# Altium schematic symbol library 74xGxx.SchLib: 165 symbols (part 1 of 2)
Pins are listed as number, name and electrical type; pins without a type are passive.

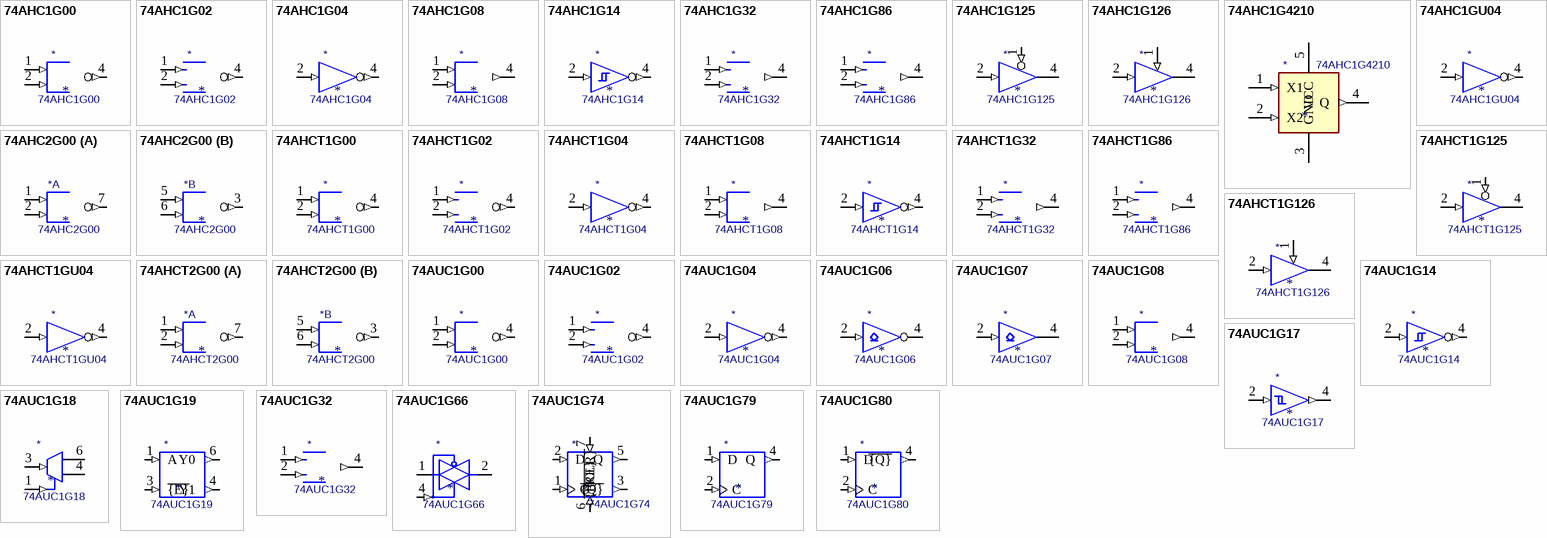
[diagram p0: symbols 74AHC1G00 to 74AUC1G80]

## 74AHC1G00
designator *  value 74AHC1G00
ki_keywords: Single Gate NAND LVC CMOS; ki_description: Single NAND Gate, Low-Voltage CMOS; ki_fp_filters: SOT* SG-*; Supplier: http://www.ti.com/lit/sg/scyt129e/scyt129e.pdf
pins: 1 (in), 2 (in), 3 GND (power) hidden, 4 (out), 5 VCC (power) hidden

## 74AHC1G02
designator *  value 74AHC1G02
ki_keywords: Single Gate NOR LVC CMOS; ki_description: Single NOR Gate, Low-Voltage CMOS; ki_fp_filters: SOT* SG-*; Supplier: http://www.ti.com/lit/sg/scyt129e/scyt129e.pdf
pins: 1 (in), 2 (in), 3 GND (power) hidden, 4 (out), 5 VCC (power) hidden

## 74AHC1G04
designator *  value 74AHC1G04
ki_keywords: Single Gate NOT LVC CMOS; ki_description: Single NOT Gate, Low-Voltage CMOS; ki_fp_filters: SOT* SG-*; Supplier: http://www.ti.com/lit/sg/scyt129e/scyt129e.pdf
pins: 2 (in), 3 GND (power) hidden, 4 (out), 5 VCC (power) hidden

## 74AHC1G08
designator *  value 74AHC1G08
ki_keywords: Single Gate AND LVC CMOS; ki_description: Single AND Gate, Low-Voltage CMOS; ki_fp_filters: SOT* SG-*; Supplier: http://www.ti.com/lit/sg/scyt129e/scyt129e.pdf
pins: 1 (in), 2 (in), 3 GND (power) hidden, 4 (out), 5 VCC (power) hidden

## 74AHC1G14
designator *  value 74AHC1G14
ki_keywords: Single Gate NOT Schmitt LVC CMOS; ki_description: Single Schmitt NOT Gate, Low-Voltage CMOS; ki_fp_filters: SOT* SG-*; Supplier: https://www.ti.com/lit/ds/symlink/sn74lvc1g14.pdf
pins: 2 (in), 3 GND (power) hidden, 4 (out), 5 VCC (power) hidden

## 74AHC1G32
designator *  value 74AHC1G32
ki_keywords: Single Gate OR LVC CMOS; ki_description: Single OR Gate, Low-Voltage CMOS; ki_fp_filters: SOT* SG-*; Supplier: http://www.ti.com/lit/sg/scyt129e/scyt129e.pdf
pins: 1 (in), 2 (in), 3 GND (power) hidden, 4 (out), 5 VCC (power) hidden

## 74AHC1G86
designator *  value 74AHC1G86
ki_keywords: Single Gate EX-OR LVC CMOS; ki_description: Single EX-OR Gate, Low-Voltage CMOS; ki_fp_filters: SOT* SG-*; Supplier: http://www.ti.com/lit/sg/scyt129e/scyt129e.pdf
pins: 1 (in), 2 (in), 3 GND (power) hidden, 4 (out), 5 VCC (power) hidden

## 74AHC1G125
designator *  value 74AHC1G125
ki_keywords: Single Gate Buff Tri-State LVC CMOS; ki_description: Single Buffer Gate Tri-State, Low-Voltage CMOS; ki_fp_filters: SOT* SG-*; Supplier: http://www.ti.com/lit/sg/scyt129e/scyt129e.pdf
pins: 1 (in), 2 (in), 3 GND (power) hidden, 4 (hiz), 5 VCC (power) hidden

## 74AHC1G126
designator *  value 74AHC1G126
ki_keywords: Single Gate Buff Tri-State LVC CMOS; ki_description: Single Buffer Gate Tri-State, Low-Voltage CMOS; ki_fp_filters: SOT* SG-*; Supplier: http://www.ti.com/lit/sg/scyt129e/scyt129e.pdf
pins: 1 (in), 2 (in), 3 GND (power) hidden, 4 (hiz), 5 VCC (power) hidden

## 74AHC1G4210
designator *  value 74AHC1G4210
ki_keywords: divider oscillator; ki_description: 10-stage divider and oscillator, SOT353-1; ki_fp_filters: SOT*353*; Footprint: Package_TO_SOT_SMD:SOT-353_SC-70-5; Supplier: https://assets.nexperia.com/documents/data-sheet/74AHC1G4210.pdf
footprint SOT-353_SC-70-5
pins: 1 X1 (in), 2 X2 (in), 3 GND (power), 4 Q (out), 5 VCC (power)

## 74AHC1GU04
designator *  value 74AHC1GU04
ki_keywords: Single Gate NOT LVC CMOS; ki_description: 74AHC1G04, Single NOT Gate, Low-Voltage CMOS; ki_fp_filters: SOT* SG-*; Supplier: http://www.ti.com/lit/sg/scyt129e/scyt129e.pdf
pins: 2 (in), 3 GND (power) hidden, 4 (out), 5 VCC (power) hidden

## 74AHC2G00
designator *  value 74AHC2G00
ki_keywords: Dual Gate NAND LVC CMOS; ki_description: Dual NAND Gate, High-speed Si-gate CMOS; ki_fp_filters: SSOP* VSSOP*; Supplier: https://assets.nexperia.com/documents/data-sheet/74AHC_AHCT2G00.pdf
part A pins: 1 (in), 2 (in), 4 GND (power) hidden, 7 (out), 8 VCC (power) hidden
part B pins: 3 (out), 4 GND (power) hidden, 5 (in), 6 (in), 8 VCC (power) hidden

## 74AHCT1G00
designator *  value 74AHCT1G00
ki_keywords: Single Gate NAND LVC CMOS; ki_description: Single NAND Gate, Low-Voltage CMOS; ki_fp_filters: SOT* SG-*; Supplier: http://www.ti.com/lit/sg/scyt129e/scyt129e.pdf
pins: 1 (in), 2 (in), 3 GND (power) hidden, 4 (out), 5 VCC (power) hidden

## 74AHCT1G02
designator *  value 74AHCT1G02
ki_keywords: Single Gate NOR LVC CMOS; ki_description: Single NOR Gate, Low-Voltage CMOS; ki_fp_filters: SOT* SG-*; Supplier: http://www.ti.com/lit/sg/scyt129e/scyt129e.pdf
pins: 1 (in), 2 (in), 3 GND (power) hidden, 4 (out), 5 VCC (power) hidden

## 74AHCT1G04
designator *  value 74AHCT1G04
ki_keywords: Single Gate NOT LVC CMOS; ki_description: Single NOT Gate, Low-Voltage CMOS; ki_fp_filters: SOT* SG-*; Supplier: http://www.ti.com/lit/sg/scyt129e/scyt129e.pdf
pins: 2 (in), 3 GND (power) hidden, 4 (out), 5 VCC (power) hidden

## 74AHCT1G08
designator *  value 74AHCT1G08
ki_keywords: Single Gate AND LVC CMOS; ki_description: Single AND Gate, Low-Voltage CMOS; ki_fp_filters: SOT* SG-*; Supplier: http://www.ti.com/lit/sg/scyt129e/scyt129e.pdf
pins: 1 (in), 2 (in), 3 GND (power) hidden, 4 (out), 5 VCC (power) hidden

## 74AHCT1G14
designator *  value 74AHCT1G14
ki_keywords: Single Gate NOT Schmitt LVC CMOS; ki_description: Single Schmitt NOT Gate, Low-Voltage CMOS; ki_fp_filters: SOT* SG-*; Supplier: http://www.ti.com/lit/sg/scyt129e/scyt129e.pdf
pins: 2 (in), 3 GND (power) hidden, 4 (out), 5 VCC (power) hidden

## 74AHCT1G32
designator *  value 74AHCT1G32
ki_keywords: Single Gate OR LVC CMOS; ki_description: Single OR Gate, Low-Voltage CMOS; ki_fp_filters: SOT* SG-*; Supplier: http://www.ti.com/lit/sg/scyt129e/scyt129e.pdf
pins: 1 (in), 2 (in), 3 GND (power) hidden, 4 (out), 5 VCC (power) hidden

## 74AHCT1G86
designator *  value 74AHCT1G86
ki_keywords: Single Gate EX-OR LVC CMOS; ki_description: Single EX-OR Gate, Low-Voltage CMOS; ki_fp_filters: SOT* SG-*; Supplier: http://www.ti.com/lit/sg/scyt129e/scyt129e.pdf
pins: 1 (in), 2 (in), 3 GND (power) hidden, 4 (out), 5 VCC (power) hidden

## 74AHCT1G125
designator *  value 74AHCT1G125
ki_keywords: Single Gate Buff Tri-State LVC CMOS; ki_description: Single Buffer Gate Tri-State, Low-Voltage CMOS; ki_fp_filters: SOT* SG-*; Supplier: http://www.ti.com/lit/sg/scyt129e/scyt129e.pdf
pins: 1 (in), 2 (in), 3 GND (power) hidden, 4 (hiz), 5 VCC (power) hidden

## 74AHCT1G126
designator *  value 74AHCT1G126
ki_keywords: Single Gate Buff Tri-State LVC CMOS; ki_description: Single Buffer Gate Tri-State, Low-Voltage CMOS; ki_fp_filters: SOT* SG-*; Supplier: http://www.ti.com/lit/sg/scyt129e/scyt129e.pdf
pins: 1 (in), 2 (in), 3 GND (power) hidden, 4 (hiz), 5 VCC (power) hidden

## 74AHCT1GU04
designator *  value 74AHCT1GU04
ki_keywords: Single Gate NOT LVC CMOS; ki_description: 74AHCT1G04, Single NOT Gate, Low-Voltage CMOS; ki_fp_filters: SOT* SG-*; Supplier: http://www.ti.com/lit/sg/scyt129e/scyt129e.pdf
pins: 2 (in), 3 GND (power) hidden, 4 (out), 5 VCC (power) hidden

## 74AHCT2G00
designator *  value 74AHCT2G00
ki_keywords: Dual Gate NAND LVC CMOS; ki_description: Dual NAND Gate, TTL input High-speed Si-gate CMOS; ki_fp_filters: SSOP* VSSOP*; Supplier: https://assets.nexperia.com/documents/data-sheet/74AHC_AHCT2G00.pdf
part A pins: 1 (in), 2 (in), 4 GND (power) hidden, 7 (out), 8 VCC (power) hidden
part B pins: 3 (out), 4 GND (power) hidden, 5 (in), 6 (in), 8 VCC (power) hidden

## 74AUC1G00
designator *  value 74AUC1G00
ki_keywords: Single Gate NAND LVC CMOS; ki_description: Single NAND Gate, Low-Voltage CMOS; ki_fp_filters: SOT* SG-*; Supplier: http://www.ti.com/lit/sg/scyt129e/scyt129e.pdf
pins: 1 (in), 2 (in), 3 GND (power) hidden, 4 (out), 5 VCC (power) hidden

## 74AUC1G02
designator *  value 74AUC1G02
ki_keywords: Single Gate NOR LVC CMOS; ki_description: Single NOR Gate, Low-Voltage CMOS; ki_fp_filters: SOT* SG-*; Supplier: http://www.ti.com/lit/sg/scyt129e/scyt129e.pdf
pins: 1 (in), 2 (in), 3 GND (power) hidden, 4 (out), 5 VCC (power) hidden

## 74AUC1G04
designator *  value 74AUC1G04
ki_keywords: Single Gate NOT LVC CMOS; ki_description: Single NOT Gate, Low-Voltage CMOS; ki_fp_filters: SOT* SG-*; Supplier: http://www.ti.com/lit/sg/scyt129e/scyt129e.pdf
pins: 2 (in), 3 GND (power) hidden, 4 (out), 5 VCC (power) hidden

## 74AUC1G06
designator *  value 74AUC1G06
ki_keywords: Single Gate NOT LVC CMOS Open Drain; ki_description: Single NOT Gate w/ Open Drain, Low-Voltage CMOS; ki_fp_filters: SOT* SG-*; Supplier: http://www.ti.com/lit/sg/scyt129e/scyt129e.pdf
pins: 2 (in), 3 GND (power) hidden, 4 (oc), 5 VCC (power) hidden

## 74AUC1G07
designator *  value 74AUC1G07
ki_keywords: Single Gate Buff LVC CMOS Open Drain; ki_description: Single Buffer Gate w/ Open Drain, Low-Voltage CMOS; ki_fp_filters: SOT* SG-*; Supplier: http://www.ti.com/lit/sg/scyt129e/scyt129e.pdf
pins: 2 (in), 3 GND (power) hidden, 4 (oc), 5 VCC (power) hidden

## 74AUC1G08
designator *  value 74AUC1G08
ki_keywords: Single Gate AND LVC CMOS; ki_description: Single AND Gate, Low-Voltage CMOS; ki_fp_filters: SOT* SG-*; Supplier: http://www.ti.com/lit/sg/scyt129e/scyt129e.pdf
pins: 1 (in), 2 (in), 3 GND (power) hidden, 4 (out), 5 VCC (power) hidden

## 74AUC1G14
designator *  value 74AUC1G14
ki_keywords: Single Gate NOT Schmitt LVC CMOS; ki_description: Single Schmitt NOT Gate, Low-Voltage CMOS; ki_fp_filters: SOT* SG-*; Supplier: http://www.ti.com/lit/sg/scyt129e/scyt129e.pdf
pins: 2 (in), 3 GND (power) hidden, 4 (out), 5 VCC (power) hidden

## 74AUC1G17
designator *  value 74AUC1G17
ki_keywords: Single Gate Buff Schmitt LVC CMOS; ki_description: Single Schmitt Buffer Gate, Low-Voltage CMOS; ki_fp_filters: SOT* SG-*; Supplier: http://www.ti.com/lit/sg/scyt129e/scyt129e.pdf
pins: 2 (in), 3 GND (power) hidden, 4 (out), 5 VCC (power) hidden

## 74AUC1G18
designator *  value 74AUC1G18
ki_keywords: Single Demux LVC CMOS; ki_description: Single Demultiplexer, Low-Voltage CMOS; ki_fp_filters: SOT* SG-*; Supplier: http://www.ti.com/lit/sg/scyt129e/scyt129e.pdf
pins: 1 (in), 2 GND (power) hidden, 3 (in), 4 (hiz), 5 VCC (power) hidden, 6 (hiz)

## 74AUC1G19
designator *  value 74AUC1G19
ki_keywords: Single Decoder LVC CMOS; ki_description: Single 1 of 2 Decoder, Low-Voltage CMOS; ki_fp_filters: SOT* SG-*; Supplier: http://www.ti.com/lit/sg/scyt129e/scyt129e.pdf
pins: 1 A (in), 2 GND (power) hidden, 3 ~{{E}} (in), 4 Y1 (out), 5 VCC (power) hidden, 6 Y0 (out)

## 74AUC1G32
designator *  value 74AUC1G32
ki_keywords: Single Gate OR LVC CMOS; ki_description: Single OR Gate, Low-Voltage CMOS; ki_fp_filters: SOT* SG-*; Supplier: http://www.ti.com/lit/sg/scyt129e/scyt129e.pdf
pins: 1 (in), 2 (in), 3 GND (power) hidden, 4 (out), 5 VCC (power) hidden

## 74AUC1G66
designator *  value 74AUC1G66
ki_keywords: Single Bilateral Analog Switch; ki_description: Single Bilateral Analog Switch, SOT-23-5/SC-70-5; ki_fp_filters: SOT* SC*; Supplier: http://www.ti.com/lit/ds/symlink/sn74auc1g66.pdf
pins: 1 (io), 2 (io), 3 GND (power) hidden, 4 (in), 5 VCC (power) hidden

## 74AUC1G74
designator *  value 74AUC1G74
ki_keywords: Single D Flip-Flop D CMOS; ki_description: Single D Flip-Flop, Low-Voltage CMOS; ki_fp_filters: SSOP* VSSOP*; Supplier: http://www.ti.com/lit/sg/scyt129e/scyt129e.pdf
pins: 1 C (in), 2 D (in), 3 ~{{Q}} (out), 4 GND (power) hidden, 5 Q (out), 6 ~{{CLR}} (in), 7 ~{{PRE}} (in), 8 VCC (power) hidden

## 74AUC1G79
designator *  value 74AUC1G79
ki_keywords: Single D Flip-Flop D CMOS; ki_description: Single D Flip-Flop, Low-Voltage CMOS; ki_fp_filters: SOT* SG*; Supplier: http://www.ti.com/lit/sg/scyt129e/scyt129e.pdf
pins: 1 D (in), 2 C (in), 3 GND (power) hidden, 4 Q (out), 5 VCC (power) hidden

## 74AUC1G80
designator *  value 74AUC1G80
ki_keywords: Single D Flip-Flop CMOS; ki_description: Single D Flip-Flop Iverted Output, Low-Voltage CMOS; ki_fp_filters: SOT* SG*; Supplier: http://www.ti.com/lit/sg/scyt129e/scyt129e.pdf
pins: 1 D (in), 2 C (in), 3 GND (power) hidden, 4 ~{{Q}} (out), 5 VCC (power) hidden

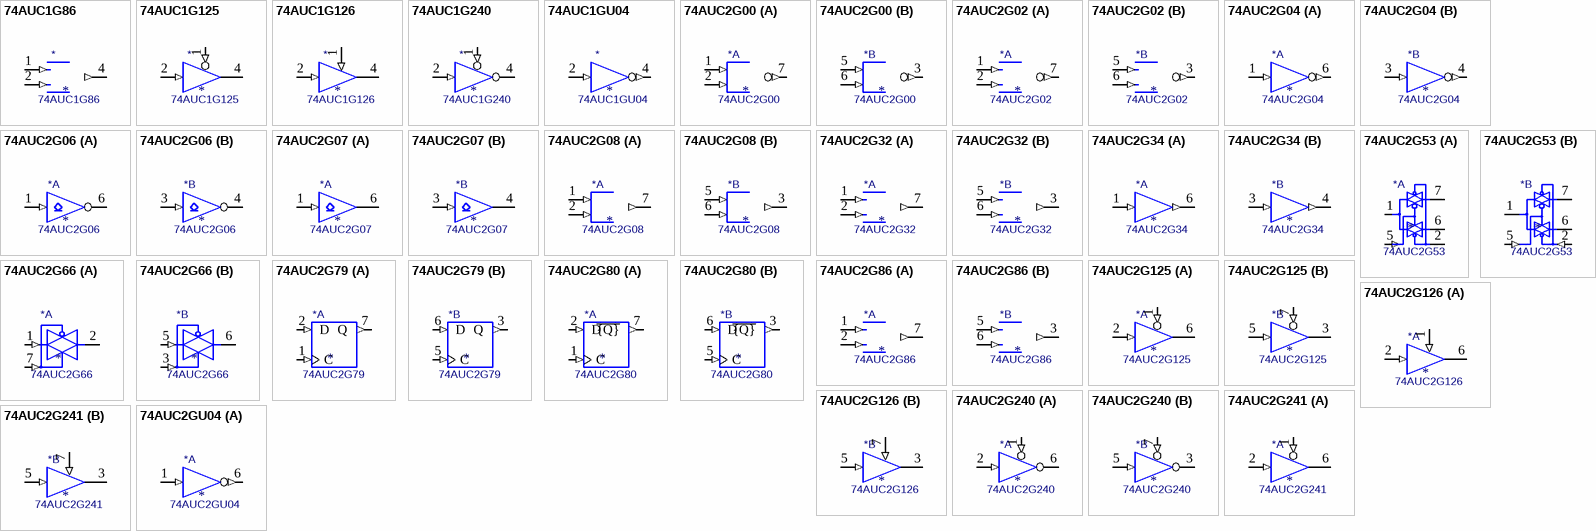
[diagram p1: symbols 74AUC1G86 to 74AUC2GU04]

## 74AUC1G86
designator *  value 74AUC1G86
ki_keywords: Single Gate EX-OR LVC CMOS; ki_description: Single EX-OR Gate, Low-Voltage CMOS; ki_fp_filters: SOT* SG-*; Supplier: http://www.ti.com/lit/sg/scyt129e/scyt129e.pdf
pins: 1 (in), 2 (in), 3 GND (power) hidden, 4 (out), 5 VCC (power) hidden

## 74AUC1G125
designator *  value 74AUC1G125
ki_keywords: Single Gate Buff Tri-State LVC CMOS; ki_description: Single Buffer Gate Tri-State, Low-Voltage CMOS; ki_fp_filters: SOT* SG-*; Supplier: http://www.ti.com/lit/sg/scyt129e/scyt129e.pdf
pins: 1 (in), 2 (in), 3 GND (power) hidden, 4 (hiz), 5 VCC (power) hidden

## 74AUC1G126
designator *  value 74AUC1G126
ki_keywords: Single Gate Buff Tri-State LVC CMOS; ki_description: Single Buffer Gate Tri-State, Low-Voltage CMOS; ki_fp_filters: SOT* SG-*; Supplier: http://www.ti.com/lit/sg/scyt129e/scyt129e.pdf
pins: 1 (in), 2 (in), 3 GND (power) hidden, 4 (hiz), 5 VCC (power) hidden

## 74AUC1G240
designator *  value 74AUC1G240
ki_keywords: Single Gate Buff/Drv Tri-State LVC CMOS; ki_description: Single Buffer/Driver Gate Tri-State, Low-Voltage CMOS; ki_fp_filters: SOT* SG-*; Supplier: http://www.ti.com/lit/sg/scyt129e/scyt129e.pdf
pins: 1 (in), 2 (in), 3 GND (power) hidden, 4 (hiz), 5 VCC (power) hidden

## 74AUC1GU04
designator *  value 74AUC1GU04
ki_keywords: Single Gate NOT LVC CMOS; ki_description: 74AUC1G04, Single NOT Gate, Low-Voltage CMOS; ki_fp_filters: SOT* SG-*; Supplier: http://www.ti.com/lit/sg/scyt129e/scyt129e.pdf
pins: 2 (in), 3 GND (power) hidden, 4 (out), 5 VCC (power) hidden

## 74AUC2G00
designator *  value 74AUC2G00
ki_keywords: Dual Gate NAND LVC CMOS; ki_description: Dual NAND Gate, Low-Voltage CMOS; ki_fp_filters: SSOP* VSSOP*; Supplier: http://www.ti.com/lit/sg/scyt129e/scyt129e.pdf
part A pins: 1 (in), 2 (in), 4 GND (power) hidden, 7 (out), 8 VCC (power) hidden
part B pins: 3 (out), 4 GND (power) hidden, 5 (in), 6 (in), 8 VCC (power) hidden

## 74AUC2G02
designator *  value 74AUC2G02
ki_keywords: Dual Gate NOR LVC CMOS; ki_description: Dual NOR Gate, Low-Voltage CMOS; ki_fp_filters: SSOP* VSSOP*; Supplier: http://www.ti.com/lit/sg/scyt129e/scyt129e.pdf
part A pins: 1 (in), 2 (in), 4 GND (power) hidden, 7 (out), 8 VCC (power) hidden
part B pins: 3 (out), 4 GND (power) hidden, 5 (in), 6 (in), 8 VCC (power) hidden

## 74AUC2G04
designator *  value 74AUC2G04
ki_keywords: Dual Gate NOT LVC CMOS; ki_description: Dual NOT Gate, Low-Voltage CMOS; ki_fp_filters: SG-* SOT*; Supplier: http://www.ti.com/lit/sg/scyt129e/scyt129e.pdf
part A pins: 1 (in), 2 GND (power) hidden, 5 VCC (power) hidden, 6 (out)
part B pins: 2 GND (power) hidden, 3 (in), 4 (out), 5 VCC (power) hidden

## 74AUC2G06
designator *  value 74AUC2G06
ki_keywords: Dual Gate NOT Open Drain LVC CMOS; ki_description: Dual NOT Gate w/ Open Drain, Low-Voltage CMOS; ki_fp_filters: SG-* SOT*; Supplier: http://www.ti.com/lit/sg/scyt129e/scyt129e.pdf
part A pins: 1 (in), 2 GND (power) hidden, 5 VCC (power) hidden, 6 (oc)
part B pins: 2 GND (power) hidden, 3 (in), 4 (oc), 5 VCC (power) hidden

## 74AUC2G07
designator *  value 74AUC2G07
ki_keywords: Dual Gate Buffer Open Drain LVC CMOS; ki_description: Dual Buffer w/ Open Drain, Low-Voltage CMOS; ki_fp_filters: SG-* SOT*; Supplier: http://www.ti.com/lit/sg/scyt129e/scyt129e.pdf
part A pins: 1 (in), 2 GND (power) hidden, 5 VCC (power) hidden, 6 (oc)
part B pins: 2 GND (power) hidden, 3 (in), 4 (oc), 5 VCC (power) hidden

## 74AUC2G08
designator *  value 74AUC2G08
ki_keywords: Dual Gate AND LVC CMOS; ki_description: Dual AND Gate, Low-Voltage CMOS; ki_fp_filters: SSOP* VSSOP*; Supplier: http://www.ti.com/lit/sg/scyt129e/scyt129e.pdf
part A pins: 1 (in), 2 (in), 4 GND (power) hidden, 7 (out), 8 VCC (power) hidden
part B pins: 3 (out), 4 GND (power) hidden, 5 (in), 6 (in), 8 VCC (power) hidden

## 74AUC2G32
designator *  value 74AUC2G32
ki_keywords: Dual Gate OR LVC CMOS; ki_description: Dual OR Gate, Low-Voltage CMOS; ki_fp_filters: SSOP* VSSOP*; Supplier: http://www.ti.com/lit/sg/scyt129e/scyt129e.pdf
part A pins: 1 (in), 2 (in), 4 GND (power) hidden, 7 (out), 8 VCC (power) hidden
part B pins: 3 (out), 4 GND (power) hidden, 5 (in), 6 (in), 8 VCC (power) hidden

## 74AUC2G34
designator *  value 74AUC2G34
ki_keywords: Dual Buffer LVC CMOS; ki_description: Dual Buffer, Low-Voltage CMOS; ki_fp_filters: SG-* SOT*; Supplier: http://www.ti.com/lit/sg/scyt129e/scyt129e.pdf
part A pins: 1 (in), 2 GND (power) hidden, 5 VCC (power) hidden, 6 (out)
part B pins: 2 GND (power) hidden, 3 (in), 4 (out), 5 VCC (power) hidden

## 74AUC2G53
designator *  value 74AUC2G53
ki_keywords: Analog Switch 1 to 2 CMOS; ki_description: 1 to 2 Analog Switch Mux/Demux, Low-Voltage CMOS; ki_fp_filters: SSOP* VSSOP*; Supplier: http://www.ti.com/lit/sg/scyt129e/scyt129e.pdf
part A pins: 1 (io), 2 (io), 3 GND (power) hidden, 4 GND (power) hidden, 5 (in), 6 (io), 7 (io), 8 VCC (power) hidden
part B pins: 1 (io), 2 (in), 4 GND (power) hidden, 5 (in), 6 (io), 7 (io), 8 VCC (power) hidden

## 74AUC2G66
designator *  value 74AUC2G66
ki_keywords: Dual Analog Switch; ki_fp_filters: SSOP* VSSOP*; Supplier: http://www.ti.com/lit/sg/scyt129e/scyt129e.pdf; ki_description: Dual Analog Switch
part A pins: 1 (in), 2 (hiz), 4 GND (power) hidden, 7 (in), 8 VCC (power) hidden
part B pins: 3 (in), 4 GND (power) hidden, 5 (in), 6 (hiz), 8 VCC (power) hidden

## 74AUC2G79
designator *  value 74AUC2G79
ki_keywords: Dual D Flip-Flop D CMOS; ki_description: Dual D Flip-Flop, Low-Voltage CMOS; ki_fp_filters: SSOP* VSSOP*; Supplier: http://www.ti.com/lit/sg/scyt129e/scyt129e.pdf
part A pins: 1 C (in), 2 D (in), 4 GND (power) hidden, 7 Q (out), 8 VCC (power) hidden
part B pins: 3 Q (out), 4 GND (power) hidden, 5 C (in), 6 D (in), 8 VCC (power) hidden

## 74AUC2G80
designator *  value 74AUC2G80
ki_keywords: Dual D Flip-Flop Negative CMOS; ki_description: Dual D Flip-Flop w/ Negative Output, Low-Voltage CMOS; ki_fp_filters: SSOP* VSSOP*; Supplier: http://www.ti.com/lit/sg/scyt129e/scyt129e.pdf
part A pins: 1 C (in), 2 D (in), 4 GND (power) hidden, 7 ~{{Q}} (out), 8 VCC (power) hidden
part B pins: 3 ~{{Q}} (out), 4 GND (power) hidden, 5 C (in), 6 D (in), 8 VCC (power) hidden

## 74AUC2G86
designator *  value 74AUC2G86
ki_keywords: Dual Gate EX-OR LVC CMOS; ki_description: Dual EX-OR Gate, Low-Voltage CMOS; ki_fp_filters: SSOP* VSSOP*; Supplier: http://www.ti.com/lit/sg/scyt129e/scyt129e.pdf
part A pins: 1 (in), 2 (in), 4 GND (power) hidden, 7 (out), 8 VCC (power) hidden
part B pins: 3 (out), 4 GND (power) hidden, 5 (in), 6 (in), 8 VCC (power) hidden

## 74AUC2G125
designator *  value 74AUC2G125
ki_keywords: Dual Buff Tri-State LVC CMOS; ki_description: Dual Buffer Tri-State, Low-Voltage CMOS; ki_fp_filters: VSSOP*; Supplier: http://www.ti.com/lit/sg/scyt129e/scyt129e.pdf
part A pins: 1 (in), 2 (in), 4 GND (power) hidden, 6 (hiz), 8 VCC (power) hidden
part B pins: 3 (hiz), 4 GND (power) hidden, 5 (in), 7 (in), 8 VCC (power) hidden

## 74AUC2G126
designator *  value 74AUC2G126
ki_keywords: Dual Buff Tri-State LVC CMOS; ki_description: Dual Buffer Tri-State, Low-Voltage CMOS; ki_fp_filters: VSSOP*; Supplier: http://www.ti.com/lit/sg/scyt129e/scyt129e.pdf
part A pins: 1 (in), 2 (in), 4 GND (power) hidden, 6 (hiz), 8 VCC (power) hidden
part B pins: 3 (hiz), 4 GND (power) hidden, 5 (in), 7 (in), 8 VCC (power) hidden

## 74AUC2G240
designator *  value 74AUC2G240
ki_keywords: Dual Inv Buff Tri-State LVC CMOS; ki_description: Dual Inverter Buffer Tri-State, Low-Voltage CMOS; ki_fp_filters: VSSOP*; Supplier: http://www.ti.com/lit/sg/scyt129e/scyt129e.pdf
part A pins: 1 (in), 2 (in), 4 GND (power) hidden, 6 (hiz), 8 VCC (power) hidden
part B pins: 3 (hiz), 4 GND (power) hidden, 5 (in), 7 (in), 8 VCC (power) hidden

## 74AUC2G241
designator *  value 74AUC2G241
ki_keywords: Dual Buff Tri-State LVC CMOS; ki_description: Dual Buffer Tri-State, Low-Voltage CMOS; ki_fp_filters: VSSOP*; Supplier: http://www.ti.com/lit/sg/scyt129e/scyt129e.pdf
part A pins: 1 (in), 2 (in), 4 GND (power) hidden, 6 (hiz), 8 VCC (power) hidden
part B pins: 3 (hiz), 4 GND (power) hidden, 5 (in), 7 (in), 8 VCC (power) hidden

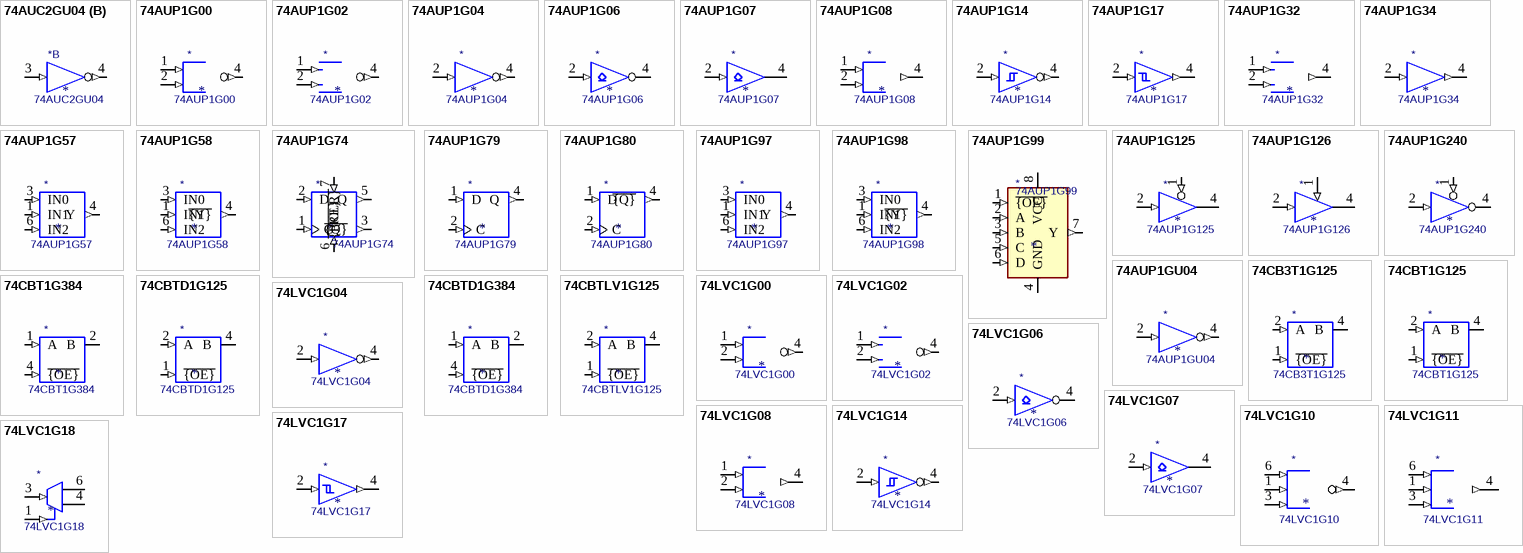
[diagram p2: symbols 74AUC2GU04 to 74LVC1G18]

## 74AUC2GU04
designator *  value 74AUC2GU04
ki_keywords: Dual Gate NOT LVC CMOS; ki_description: 74AUC2G04, Dual NOT Gate, Low-Voltage CMOS; ki_fp_filters: SG-* SOT*; Supplier: http://www.ti.com/lit/sg/scyt129e/scyt129e.pdf
part A pins: 1 (in), 2 GND (power) hidden, 5 VCC (power) hidden, 6 (out)
part B pins: 2 GND (power) hidden, 3 (in), 4 (out), 5 VCC (power) hidden

## 74AUP1G00
designator *  value 74AUP1G00
ki_keywords: Single Gate NAND LVC CMOS; ki_description: Single NAND Gate, Low-Voltage CMOS; ki_fp_filters: SOT* SG-*; Supplier: http://www.ti.com/lit/sg/scyt129e/scyt129e.pdf
pins: 1 (in), 2 (in), 3 GND (power) hidden, 4 (out), 5 VCC (power) hidden

## 74AUP1G02
designator *  value 74AUP1G02
ki_keywords: Single Gate NOR LVC CMOS; ki_description: Single NOR Gate, Low-Voltage CMOS; ki_fp_filters: SOT* SG-*; Supplier: http://www.ti.com/lit/sg/scyt129e/scyt129e.pdf
pins: 1 (in), 2 (in), 3 GND (power) hidden, 4 (out), 5 VCC (power) hidden

## 74AUP1G04
designator *  value 74AUP1G04
ki_keywords: Single Gate NOT LVC CMOS; ki_description: Single NOT Gate, Low-Voltage CMOS; ki_fp_filters: SOT* SG-*; Supplier: http://www.ti.com/lit/sg/scyt129e/scyt129e.pdf
pins: 2 (in), 3 GND (power) hidden, 4 (out), 5 VCC (power) hidden

## 74AUP1G06
designator *  value 74AUP1G06
ki_keywords: Single Gate NOT LVC CMOS Open Drain; ki_description: Single NOT Gate w/ Open Drain, Low-Voltage CMOS; ki_fp_filters: SOT* SG-*; Supplier: http://www.ti.com/lit/sg/scyt129e/scyt129e.pdf
pins: 2 (in), 3 GND (power) hidden, 4 (oc), 5 VCC (power) hidden

## 74AUP1G07
designator *  value 74AUP1G07
ki_keywords: Single Gate Buff LVC CMOS Open Drain; ki_description: Single Buffer Gate w/ Open Drain, Low-Voltage CMOS; ki_fp_filters: SOT* SG-*; Supplier: http://www.ti.com/lit/sg/scyt129e/scyt129e.pdf
pins: 2 (in), 3 GND (power) hidden, 4 (oc), 5 VCC (power) hidden

## 74AUP1G08
designator *  value 74AUP1G08
ki_keywords: Single Gate AND LVC CMOS; ki_description: Single AND Gate, Low-Voltage CMOS; ki_fp_filters: SOT* SG-*; Supplier: http://www.ti.com/lit/sg/scyt129e/scyt129e.pdf
pins: 1 (in), 2 (in), 3 GND (power) hidden, 4 (out), 5 VCC (power) hidden

## 74AUP1G14
designator *  value 74AUP1G14
ki_keywords: Single Gate NOT Schmitt LVC CMOS; ki_description: Single Schmitt NOT Gate, Low-Voltage CMOS; ki_fp_filters: SOT* SG-*; Supplier: http://www.ti.com/lit/sg/scyt129e/scyt129e.pdf
pins: 2 (in), 3 GND (power) hidden, 4 (out), 5 VCC (power) hidden

## 74AUP1G17
designator *  value 74AUP1G17
ki_keywords: Single Gate Buff Schmitt LVC CMOS; ki_description: Single Schmitt Buffer Gate, Low-Voltage CMOS; ki_fp_filters: SOT* SG-*; Supplier: http://www.ti.com/lit/sg/scyt129e/scyt129e.pdf
pins: 2 (in), 3 GND (power) hidden, 4 (out), 5 VCC (power) hidden

## 74AUP1G32
designator *  value 74AUP1G32
ki_keywords: Single Gate OR LVC CMOS; ki_description: Single OR Gate, Low-Voltage CMOS; ki_fp_filters: SOT* SG-*; Supplier: http://www.ti.com/lit/sg/scyt129e/scyt129e.pdf
pins: 1 (in), 2 (in), 3 GND (power) hidden, 4 (out), 5 VCC (power) hidden

## 74AUP1G34
designator *  value 74AUP1G34
ki_keywords: Single Gate Buff LVC CMOS; ki_description: Single Buffef Gate, Low-Voltage CMOS; ki_fp_filters: SOT* SG-*; Supplier: http://www.ti.com/lit/sg/scyt129e/scyt129e.pdf
pins: 2 (in), 3 GND (power) hidden, 4 (out), 5 VCC (power) hidden

## 74AUP1G57
designator *  value 74AUP1G57
ki_keywords: Configurable Single Gate LVC CMOS; ki_description: Configurable Multi-Function Single Gate, Low-Voltage CMOS; ki_fp_filters: SOT* SC*; Supplier: http://www.ti.com/lit/sg/scyt129e/scyt129e.pdf
pins: 1 IN1 (in), 2 GND (power) hidden, 3 IN0 (in), 4 Y (out), 5 VCC (power) hidden, 6 IN2 (in)

## 74AUP1G58
designator *  value 74AUP1G58
ki_keywords: Configurable Single Gate LVC CMOS; ki_description: 74LAUP1G58, Configurable Multi-Function Single Gate, Low-Voltage CMOS; ki_fp_filters: SOT* SC*; Supplier: http://www.ti.com/lit/sg/scyt129e/scyt129e.pdf
pins: 1 IN1 (in), 2 GND (power) hidden, 3 IN0 (in), 4 ~{{Y}} (out), 5 VCC (power) hidden, 6 IN2 (in)

## 74AUP1G74
designator *  value 74AUP1G74
ki_keywords: Single D Flip-Flop D CMOS; ki_description: Single D Flip-Flop, Low-Voltage CMOS; ki_fp_filters: SSOP* VSSOP*; Supplier: http://www.ti.com/lit/sg/scyt129e/scyt129e.pdf
pins: 1 C (in), 2 D (in), 3 ~{{Q}} (out), 4 GND (power) hidden, 5 Q (out), 6 ~{{CLR}} (in), 7 ~{{PRE}} (in), 8 VCC (power) hidden

## 74AUP1G79
designator *  value 74AUP1G79
ki_keywords: Single D Flip-Flop D CMOS; ki_description: Single D Flip-Flop, Low-Voltage CMOS; ki_fp_filters: SOT* SG*; Supplier: http://www.ti.com/lit/sg/scyt129e/scyt129e.pdf
pins: 1 D (in), 2 C (in), 3 GND (power) hidden, 4 Q (out), 5 VCC (power) hidden

## 74AUP1G80
designator *  value 74AUP1G80
ki_keywords: Single D Flip-Flop CMOS; ki_description: Single D Flip-Flop Iverted Output, Low-Voltage CMOS; ki_fp_filters: SOT* SG*; Supplier: http://www.ti.com/lit/sg/scyt129e/scyt129e.pdf
pins: 1 D (in), 2 C (in), 3 GND (power) hidden, 4 ~{{Q}} (out), 5 VCC (power) hidden

## 74AUP1G97
designator *  value 74AUP1G97
ki_keywords: Configurable Single Gate LVC CMOS; ki_description: Configurable Multi-Function Single Gate, Low-Voltage CMOS; ki_fp_filters: SOT* SC*; Supplier: http://www.ti.com/lit/sg/scyt129e/scyt129e.pdf
pins: 1 IN1 (in), 2 GND (power) hidden, 3 IN0 (in), 4 Y (out), 5 VCC (power) hidden, 6 IN2 (in)

## 74AUP1G98
designator *  value 74AUP1G98
ki_keywords: Configurable Single Gate LVC CMOS; ki_description: Configurable Multi-Function Single Gate, Low-Voltage CMOS; ki_fp_filters: SOT* SC*; Supplier: http://www.ti.com/lit/sg/scyt129e/scyt129e.pdf
pins: 1 IN1 (in), 2 GND (power) hidden, 3 IN0 (in), 4 ~{{Y}} (out), 5 VCC (power) hidden, 6 IN2 (in)

## 74AUP1G99
designator *  value 74AUP1G99
ki_keywords: Configurable Single Gate LVC CMOS; ki_description: Configurable Multi-Function Single Gate, Low-Voltage CMOS; ki_fp_filters: SSOP* VSSOP*; Supplier: http://www.ti.com/lit/sg/scyt129e/scyt129e.pdf
pins: 1 ~{{OE}} (in), 2 A (in), 3 B (in), 4 GND (power), 5 C (in), 6 D (in), 7 Y (out), 8 VCC (power)

## 74AUP1G125
designator *  value 74AUP1G125
ki_keywords: Single Gate Buff Tri-State LVC CMOS; ki_description: Single Buffer Gate Tri-State, Low-Voltage CMOS; ki_fp_filters: SOT* SG-*; Supplier: http://www.ti.com/lit/sg/scyt129e/scyt129e.pdf
pins: 1 (in), 2 (in), 3 GND (power) hidden, 4 (hiz), 5 VCC (power) hidden

## 74AUP1G126
designator *  value 74AUP1G126
ki_keywords: Single Gate Buff Tri-State LVC CMOS; ki_description: Single Buffer Gate Tri-State, Low-Voltage CMOS; ki_fp_filters: SOT* SG-*; Supplier: http://www.ti.com/lit/sg/scyt129e/scyt129e.pdf
pins: 1 (in), 2 (in), 3 GND (power) hidden, 4 (hiz), 5 VCC (power) hidden

## 74AUP1G240
designator *  value 74AUP1G240
ki_keywords: Single Gate Buff/Drv Tri-State LVC CMOS; ki_description: Single Buffer/Driver Gate Tri-State, Low-Voltage CMOS; ki_fp_filters: SOT* SG-*; Supplier: http://www.ti.com/lit/sg/scyt129e/scyt129e.pdf
pins: 1 (in), 2 (in), 3 GND (power) hidden, 4 (hiz), 5 VCC (power) hidden

## 74AUP1GU04
designator *  value 74AUP1GU04
ki_keywords: Single Gate NOT LVC CMOS; ki_description: 74AUP1G04, Single NOT Gate, Low-Voltage CMOS; ki_fp_filters: SOT* SG-*; Supplier: http://www.ti.com/lit/sg/scyt129e/scyt129e.pdf
pins: 2 (in), 3 GND (power) hidden, 4 (out), 5 VCC (power) hidden

## 74CB3T1G125
designator *  value 74CB3T1G125
ki_keywords: Single FET Bus Switch; ki_fp_filters: SOT* SC*; Supplier: http://www.ti.com/lit/sg/scyt129e/scyt129e.pdf; ki_description: Single FET Bus Switch
pins: 1 ~{{OE}} (in), 2 A (in), 3 GND (power) hidden, 4 B (hiz), 5 VCC (power) hidden

## 74CBT1G125
designator *  value 74CBT1G125
ki_keywords: Single FET Bus Switch; ki_fp_filters: SOT* SC*; Supplier: http://www.ti.com/lit/sg/scyt129e/scyt129e.pdf; ki_description: Single FET Bus Switch
pins: 1 ~{{OE}} (in), 2 A (in), 3 GND (power) hidden, 4 B (hiz), 5 VCC (power) hidden

## 74CBT1G384
designator *  value 74CBT1G384
ki_keywords: Single FET Bus Switch; ki_fp_filters: SOT* SC*; Supplier: http://www.ti.com/lit/sg/scyt129e/scyt129e.pdf; ki_description: Single FET Bus Switch
pins: 1 A (in), 2 B (hiz), 3 GND (power) hidden, 4 ~{{OE}} (in), 5 VCC (power) hidden

## 74CBTD1G125
designator *  value 74CBTD1G125
ki_keywords: Single FET Bus Switch; ki_fp_filters: SOT* SC*; Supplier: http://www.ti.com/lit/sg/scyt129e/scyt129e.pdf; ki_description: Single FET Bus Switch
pins: 1 ~{{OE}} (in), 2 A (in), 3 GND (power) hidden, 4 B (hiz), 5 VCC (power) hidden

## 74CBTD1G384
designator *  value 74CBTD1G384
ki_keywords: Single FET Bus Switch; ki_fp_filters: SOT* SC*; Supplier: http://www.ti.com/lit/sg/scyt129e/scyt129e.pdf; ki_description: Single FET Bus Switch
pins: 1 A (in), 2 B (hiz), 3 GND (power) hidden, 4 ~{{OE}} (in), 5 VCC (power) hidden

## 74CBTLV1G125
designator *  value 74CBTLV1G125
ki_keywords: Single FET Bus Switch; ki_fp_filters: SOT* SC*; Supplier: http://www.ti.com/lit/sg/scyt129e/scyt129e.pdf; ki_description: Single FET Bus Switch
pins: 1 ~{{OE}} (in), 2 A (in), 3 GND (power) hidden, 4 B (hiz), 5 VCC (power) hidden

## 74LVC1G00
designator *  value 74LVC1G00
ki_keywords: Single Gate NAND LVC CMOS; ki_description: Single NAND Gate, Low-Voltage CMOS; ki_fp_filters: SOT* SG-*; Supplier: http://www.ti.com/lit/sg/scyt129e/scyt129e.pdf
pins: 1 (in), 2 (in), 3 GND (power) hidden, 4 (out), 5 VCC (power) hidden

## 74LVC1G02
designator *  value 74LVC1G02
ki_keywords: Single Gate NOR LVC CMOS; ki_description: Single NOR Gate, Low-Voltage CMOS; ki_fp_filters: SOT* SG-*; Supplier: http://www.ti.com/lit/sg/scyt129e/scyt129e.pdf
pins: 1 (in), 2 (in), 3 GND (power) hidden, 4 (out), 5 VCC (power) hidden

## 74LVC1G04
designator *  value 74LVC1G04
ki_keywords: Single Gate NOT LVC CMOS; ki_description: Single NOT Gate, Low-Voltage CMOS; ki_fp_filters: SOT* SG-*; Supplier: http://www.ti.com/lit/sg/scyt129e/scyt129e.pdf
pins: 2 (in), 3 GND (power) hidden, 4 (out), 5 VCC (power) hidden

## 74LVC1G06
designator *  value 74LVC1G06
ki_keywords: Single Gate NOT LVC CMOS Open Drain; ki_description: Single NOT Gate w/ Open Drain, Low-Voltage CMOS; ki_fp_filters: SOT* SG-*; Supplier: http://www.ti.com/lit/sg/scyt129e/scyt129e.pdf
pins: 2 (in), 3 GND (power) hidden, 4 (oc), 5 VCC (power) hidden

## 74LVC1G07
designator *  value 74LVC1G07
ki_keywords: Single Gate Buff LVC CMOS Open Drain; ki_description: Single Buffer Gate w/ Open Drain, Low-Voltage CMOS; ki_fp_filters: SOT* SG-*; Supplier: http://www.ti.com/lit/sg/scyt129e/scyt129e.pdf
pins: 2 (in), 3 GND (power) hidden, 4 (oc), 5 VCC (power) hidden

## 74LVC1G08
designator *  value 74LVC1G08
ki_keywords: Single Gate AND LVC CMOS; ki_description: Single AND Gate, Low-Voltage CMOS; ki_fp_filters: SOT* SG-*; Supplier: http://www.ti.com/lit/sg/scyt129e/scyt129e.pdf
pins: 1 (in), 2 (in), 3 GND (power) hidden, 4 (out), 5 VCC (power) hidden

## 74LVC1G10
designator *  value 74LVC1G10
ki_keywords: Single Gate NAND triple LVC CMOS; ki_description: Single NAND 3 Input Gate, Low-Voltage CMOS; ki_fp_filters: SOT* SG-*; Supplier: http://www.ti.com/lit/sg/scyt129e/scyt129e.pdf
pins: 1 (in), 2 GND (power) hidden, 3 (in), 4 (out), 5 VCC (power) hidden, 6 (in)

## 74LVC1G11
designator *  value 74LVC1G11
ki_keywords: Single Gate AND triple LVC CMOS; ki_description: Single AND 3 Input Gate, Low-Voltage CMOS; ki_fp_filters: SOT* SG-*; Supplier: http://www.ti.com/lit/sg/scyt129e/scyt129e.pdf
pins: 1 (in), 2 GND (power) hidden, 3 (in), 4 (out), 5 VCC (power) hidden, 6 (in)

## 74LVC1G14
designator *  value 74LVC1G14
ki_keywords: Single Gate NOT Schmitt LVC CMOS; ki_description: Single Schmitt NOT Gate, Low-Voltage CMOS; ki_fp_filters: SOT* SG-*; Supplier: http://www.ti.com/lit/sg/scyt129e/scyt129e.pdf
pins: 2 (in), 3 GND (power) hidden, 4 (out), 5 VCC (power) hidden

## 74LVC1G17
designator *  value 74LVC1G17
ki_keywords: Single Gate Buff Schmitt LVC CMOS; ki_description: Single Schmitt Buffer Gate, Low-Voltage CMOS; ki_fp_filters: SOT* SG-*; Supplier: http://www.ti.com/lit/sg/scyt129e/scyt129e.pdf
pins: 2 (in), 3 GND (power) hidden, 4 (out), 5 VCC (power) hidden

## 74LVC1G18
designator *  value 74LVC1G18
ki_keywords: Single Demux LVC CMOS; ki_description: Single Demultiplexer, Low-Voltage CMOS; ki_fp_filters: SOT* SG-*; Supplier: http://www.ti.com/lit/sg/scyt129e/scyt129e.pdf
pins: 1 (in), 2 GND (power) hidden, 3 (in), 4 (hiz), 5 VCC (power) hidden, 6 (hiz)

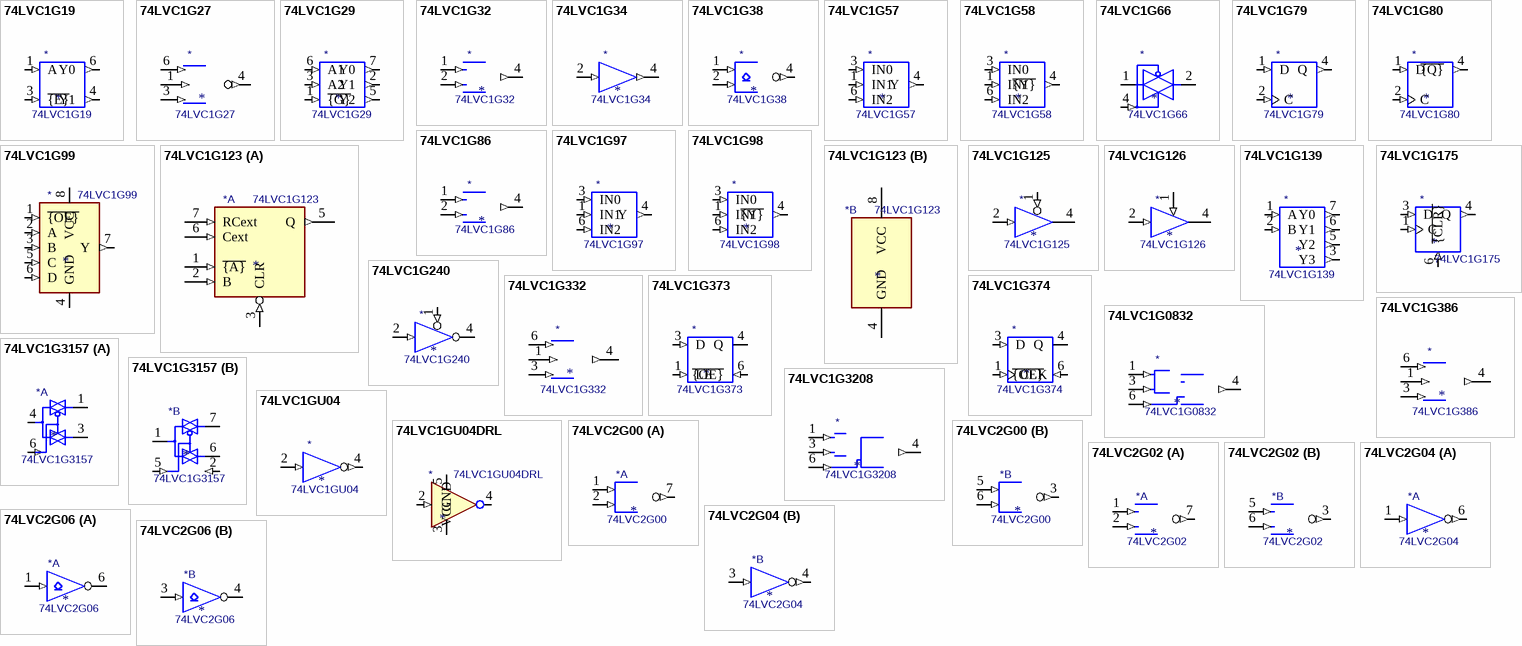
[diagram p3: symbols 74LVC1G19 to 74LVC2G06]

## 74LVC1G19
designator *  value 74LVC1G19
ki_keywords: Single Decoder LVC CMOS; ki_description: 1 of 2 Decoder, Low-Voltage CMOS; ki_fp_filters: SOT* SG-*; Supplier: http://www.ti.com/lit/sg/scyt129e/scyt129e.pdf
pins: 1 A (in), 2 GND (power) hidden, 3 ~{{E}} (in), 4 Y1 (out), 5 VCC (power) hidden, 6 Y0 (out)

## 74LVC1G27
designator *  value 74LVC1G27
ki_keywords: Single Gate NOR triple LVC CMOS; ki_description: Single NOR 3 Input Gate, Low-Voltage CMOS; ki_fp_filters: SOT* SG-*; Supplier: http://www.ti.com/lit/sg/scyt129e/scyt129e.pdf
pins: 1 (in), 2 GND (power) hidden, 3 (in), 4 (out), 5 VCC (power) hidden, 6 (in)

## 74LVC1G29
designator *  value 74LVC1G29
ki_keywords: Single Decoder LVC CMOS; ki_description: 2 of 3 Decoder, Low-Voltage CMOS; ki_fp_filters: SSOP* VSSOP*; Supplier: http://www.ti.com/lit/sg/scyt129e/scyt129e.pdf
pins: 1 ~{{G}} (in), 2 Y1 (out), 3 A2 (in), 4 GND (power) hidden, 5 Y2 (out), 6 A1 (in), 7 Y0 (out), 8 VCC (power) hidden

## 74LVC1G32
designator *  value 74LVC1G32
ki_keywords: Single Gate OR LVC CMOS; ki_description: Single OR Gate, Low-Voltage CMOS; ki_fp_filters: SOT* SG-*; Supplier: http://www.ti.com/lit/sg/scyt129e/scyt129e.pdf
pins: 1 (in), 2 (in), 3 GND (power) hidden, 4 (out), 5 VCC (power) hidden

## 74LVC1G34
designator *  value 74LVC1G34
ki_keywords: Single Gate Buff LVC CMOS; ki_description: Single Buffef Gate, Low-Voltage CMOS; ki_fp_filters: SOT* SG-*; Supplier: http://www.ti.com/lit/sg/scyt129e/scyt129e.pdf
pins: 2 (in), 3 GND (power) hidden, 4 (out), 5 VCC (power) hidden

## 74LVC1G38
designator *  value 74LVC1G38
ki_keywords: Single Gate NAND Open Drain LVC CMOS; ki_description: Single NAND Gate Open Drain, Low-Voltage CMOS; ki_fp_filters: SOT* SG-*; Supplier: http://www.ti.com/lit/sg/scyt129e/scyt129e.pdf
pins: 1 (in), 2 (in), 3 GND (power) hidden, 4 (out), 5 VCC (power) hidden

## 74LVC1G57
designator *  value 74LVC1G57
ki_keywords: Configurable Single Gate LVC CMOS; ki_description: Configurable Multi-Function Single Gate, Low-Voltage CMOS; ki_fp_filters: SOT* SC*; Supplier: http://www.ti.com/lit/sg/scyt129e/scyt129e.pdf
pins: 1 IN1 (in), 2 GND (power) hidden, 3 IN0 (in), 4 Y (out), 5 VCC (power) hidden, 6 IN2 (in)

## 74LVC1G58
designator *  value 74LVC1G58
ki_keywords: Configurable Single Gate LVC CMOS; ki_description: Configurable Multi-Function Single Gate, Low-Voltage CMOS; ki_fp_filters: SOT* SC*; Supplier: http://www.ti.com/lit/sg/scyt129e/scyt129e.pdf
pins: 1 IN1 (in), 2 GND (power) hidden, 3 IN0 (in), 4 ~{{Y}} (out), 5 VCC (power) hidden, 6 IN2 (in)

## 74LVC1G66
designator *  value 74LVC1G66
ki_keywords: Single Bilateral Analog Switch; ki_description: Single Bilateral Analog Switch, SOT-23-5/SC-70-5; ki_fp_filters: SOT* SC*; Supplier: http://www.ti.com/lit/ds/symlink/sn74lvc1g66.pdf
pins: 1 (io), 2 (io), 3 GND (power) hidden, 4 (in), 5 VCC (power) hidden

## 74LVC1G79
designator *  value 74LVC1G79
ki_keywords: Single D Flip-Flop D CMOS; ki_description: Single D Flip-Flop, Low-Voltage CMOS; ki_fp_filters: SOT* SG*; Supplier: http://www.ti.com/lit/sg/scyt129e/scyt129e.pdf
pins: 1 D (in), 2 C (in), 3 GND (power) hidden, 4 Q (out), 5 VCC (power) hidden

## 74LVC1G80
designator *  value 74LVC1G80
ki_keywords: Single D Flip-Flop CMOS; ki_description: Single D Flip-Flop Iverted Output, Low-Voltage CMOS; ki_fp_filters: SOT* SG*; Supplier: http://www.ti.com/lit/sg/scyt129e/scyt129e.pdf
pins: 1 D (in), 2 C (in), 3 GND (power) hidden, 4 ~{{Q}} (out), 5 VCC (power) hidden

## 74LVC1G86
designator *  value 74LVC1G86
ki_keywords: Single Gate EX-OR LVC CMOS; ki_description: Single EX-OR Gate, Low-Voltage CMOS; ki_fp_filters: SOT* SG-*; Supplier: http://www.ti.com/lit/sg/scyt129e/scyt129e.pdf
pins: 1 (in), 2 (in), 3 GND (power) hidden, 4 (out), 5 VCC (power) hidden

## 74LVC1G97
designator *  value 74LVC1G97
ki_keywords: Configurable Single Gate LVC CMOS; ki_description: Configurable Multi-Function Single Gate, Low-Voltage CMOS; ki_fp_filters: SOT* SC*; Supplier: http://www.ti.com/lit/sg/scyt129e/scyt129e.pdf
pins: 1 IN1 (in), 2 GND (power) hidden, 3 IN0 (in), 4 Y (out), 5 VCC (power) hidden, 6 IN2 (in)

## 74LVC1G98
designator *  value 74LVC1G98
ki_keywords: Configurable Single Gate LVC CMOS; ki_description: Configurable Multi-Function Single Gate, Low-Voltage CMOS; ki_fp_filters: SOT* SC*; Supplier: http://www.ti.com/lit/sg/scyt129e/scyt129e.pdf
pins: 1 IN1 (in), 2 GND (power) hidden, 3 IN0 (in), 4 ~{{Y}} (out), 5 VCC (power) hidden, 6 IN2 (in)

## 74LVC1G99
designator *  value 74LVC1G99
ki_keywords: Configurable Single Gate LVC CMOS; ki_description: Configurable Multi-Function Single Gate, Low-Voltage CMOS; ki_fp_filters: SSOP* VSSOP*; Supplier: https://www.ti.com/lit/gpn/sn74lvc1g99
pins: 1 ~{{OE}} (in), 2 A (in), 3 B (in), 4 GND (power), 5 C (in), 6 D (in), 7 Y (out), 8 VCC (power)

## 74LVC1G123
designator *  value 74LVC1G123
ki_keywords: Single Mono Multivibrator CMOS; ki_description: Single Retrigerrable Monostabile Multivibrator, Low-Voltage CMOS; ki_fp_filters: SSOP*2.95x2.8mm*P0.65* VSSOP*2.3x2mm*P0.5mm*; Supplier: http://www.ti.com/lit/ds/symlink/sn74lvc1g123.pdf
part A pins: 1 ~{{A}} (in), 2 B (in), 3 CLR (in), 5 Q (out), 6 Cext (in), 7 RCext (in)
part B pins: 4 GND (power), 8 VCC (power)

## 74LVC1G125
designator *  value 74LVC1G125
ki_keywords: Single Gate Buff Tri-State LVC CMOS; ki_description: Single Buffer Gate Tri-State, Low-Voltage CMOS; ki_fp_filters: SOT* SG-*; Supplier: http://www.ti.com/lit/sg/scyt129e/scyt129e.pdf
pins: 1 (in), 2 (in), 3 GND (power) hidden, 4 (hiz), 5 VCC (power) hidden

## 74LVC1G126
designator *  value 74LVC1G126
ki_keywords: Single Gate Buff Tri-State LVC CMOS; ki_description: Single Buffer Gate Tri-State, Low-Voltage CMOS; ki_fp_filters: SOT* SG-*; Supplier: http://www.ti.com/lit/sg/scyt129e/scyt129e.pdf
pins: 1 (in), 2 (in), 3 GND (power) hidden, 4 (hiz), 5 VCC (power) hidden

## 74LVC1G139
designator *  value 74LVC1G139
ki_keywords: Single Decoder LVC CMOS; ki_description: 2 to 4 Decoder, Low-Voltage CMOS; ki_fp_filters: SSOP* VSSOP*; Supplier: http://www.ti.com/lit/sg/scyt129e/scyt129e.pdf
pins: 1 A (in), 2 B (in), 3 Y3 (out), 4 GND (power) hidden, 5 Y2 (out), 6 Y1 (out), 7 Y0 (out), 8 VCC (power) hidden

## 74LVC1G175
designator *  value 74LVC1G175
ki_keywords: Single D Flip-Flop Clear CMOS; ki_description: Single D Flip-Flop w/ Asnynchronus Clear, Low-Voltage CMOS; ki_fp_filters: SOT* SC*; Supplier: http://www.ti.com/lit/sg/scyt129e/scyt129e.pdf
pins: 1 C (in), 2 GND (power) hidden, 3 D (in), 4 Q (out), 5 VCC (power) hidden, 6 ~{{CLR}} (in)

## 74LVC1G240
designator *  value 74LVC1G240
ki_keywords: Single Gate Buff/Drv Tri-State LVC CMOS; ki_description: Single Buffer/Driver Gate Tri-State, Low-Voltage CMOS; ki_fp_filters: SOT* SG-*; Supplier: http://www.ti.com/lit/sg/scyt129e/scyt129e.pdf
pins: 1 (in), 2 (in), 3 GND (power) hidden, 4 (hiz), 5 VCC (power) hidden

## 74LVC1G332
designator *  value 74LVC1G332
ki_keywords: Single Gate OR triple LVC CMOS; ki_description: Single OR 3 Input Gate, Low-Voltage CMOS; ki_fp_filters: SOT* SG-*; Supplier: http://www.ti.com/lit/sg/scyt129e/scyt129e.pdf
pins: 1 (in), 2 GND (power) hidden, 3 (in), 4 (out), 5 VCC (power) hidden, 6 (in)

## 74LVC1G373
designator *  value 74LVC1G373
ki_keywords: Single D Latch CMOS; ki_description: Single D Latch, Low-Voltage CMOS; ki_fp_filters: SOT* SC*; Supplier: http://www.ti.com/lit/sg/scyt129e/scyt129e.pdf
pins: 1 LE (in), 2 GND (power) hidden, 3 D (in), 4 Q (hiz), 5 VCC (power) hidden, 6 ~{{OE}} (in)

## 74LVC1G374
designator *  value 74LVC1G374
ki_keywords: Single D Flip-Flop Tri-State CMOS; ki_description: Single D Flip-Flop Tri-State Output, Low-Voltage CMOS; ki_fp_filters: SOT* SC*; Supplier: http://www.ti.com/lit/sg/scyt129e/scyt129e.pdf
pins: 1 CLK (in), 2 GND (power) hidden, 3 D (in), 4 Q (hiz), 5 VCC (power) hidden, 6 ~{{OE}} (in)

## 74LVC1G386
designator *  value 74LVC1G386
ki_keywords: Single Gate EX-OR triple LVC CMOS; ki_description: Single EX-OR 3 Input Gate, Low-Voltage CMOS; ki_fp_filters: SOT* SG-*; Supplier: http://www.ti.com/lit/sg/scyt129e/scyt129e.pdf
pins: 1 (in), 2 GND (power) hidden, 3 (in), 4 (out), 5 VCC (power) hidden, 6 (in)

## 74LVC1G0832
designator *  value 74LVC1G0832
ki_keywords: Single Gate AND-OR LVC CMOS; ki_description: Single AND-OR Gate, Low-Voltage CMOS; ki_fp_filters: SOT* SG-*; Supplier: http://www.ti.com/lit/sg/scyt129e/scyt129e.pdf
pins: 1 (in), 2 GND (power) hidden, 3 (in), 4 (out), 5 VCC (power) hidden, 6 (in)

## 74LVC1G3157
designator *  value 74LVC1G3157
ki_keywords: SPDT Analog Switch CMOS; ki_description: SPDT Analog Switch, Low-Voltage CMOS; ki_fp_filters: SOT* SC*; Supplier: http://www.ti.com/lit/sg/scyt129e/scyt129e.pdf
part A pins: 1 (io), 2 GND (power) hidden, 3 (io), 4 (io), 5 VCC (power) hidden, 6 (in)
part B pins: 1 (io), 2 GND (power) hidden, 2 (in), 5 VCC (power) hidden, 5 (in), 6 (io), 7 (io)

## 74LVC1G3208
designator *  value 74LVC1G3208
ki_keywords: Single Gate OR-AND LVC CMOS; ki_description: Single OR-AND Gate, Low-Voltage CMOS; ki_fp_filters: SOT* SG-*; Supplier: http://www.ti.com/lit/sg/scyt129e/scyt129e.pdf
pins: 1 (in), 2 GND (power) hidden, 3 (in), 4 (out), 5 VCC (power) hidden, 6 (in)

## 74LVC1GU04
designator *  value 74LVC1GU04
ki_keywords: Single Gate NOT LVC CMOS; ki_description: 74LVC1G04, Single NOT Gate, Low-Voltage CMOS; ki_fp_filters: SOT* SG-*; Supplier: http://www.ti.com/lit/sg/scyt129e/scyt129e.pdf
pins: 2 (in), 3 GND (power) hidden, 4 (out), 5 VCC (power) hidden

## 74LVC1GU04DRL
designator *  value 74LVC1GU04DRL
ki_keywords: inverter cmos; ki_description: Single Inverter Gate, SOT-553; ki_fp_filters: SOT*553*; Footprint: Package_TO_SOT_SMD:SOT-553; Supplier: http://www.ti.com/lit/ds/symlink/sn74lvc1gu04.pdf
footprint SOT-553
pins: 1 NC (in) hidden, 2 (in), 3 GND (power), 4 (out), 5 VCC (power)

## 74LVC2G00
designator *  value 74LVC2G00
ki_keywords: Dual Gate NAND LVC CMOS; ki_description: Dual NAND Gate, Low-Voltage CMOS; ki_fp_filters: SSOP* VSSOP*; Supplier: http://www.ti.com/lit/sg/scyt129e/scyt129e.pdf
part A pins: 1 (in), 2 (in), 4 GND (power) hidden, 7 (out), 8 VCC (power) hidden
part B pins: 3 (out), 4 GND (power) hidden, 5 (in), 6 (in), 8 VCC (power) hidden

## 74LVC2G02
designator *  value 74LVC2G02
ki_keywords: Dual Gate NOR LVC CMOS; ki_description: Dual NOR Gate, Low-Voltage CMOS; ki_fp_filters: SSOP* VSSOP*; Supplier: http://www.ti.com/lit/sg/scyt129e/scyt129e.pdf
part A pins: 1 (in), 2 (in), 4 GND (power) hidden, 7 (out), 8 VCC (power) hidden
part B pins: 3 (out), 4 GND (power) hidden, 5 (in), 6 (in), 8 VCC (power) hidden

## 74LVC2G04
designator *  value 74LVC2G04
ki_keywords: Dual Gate NOT LVC CMOS; ki_description: Dual NOT Gate, Low-Voltage CMOS; ki_fp_filters: SG-* SOT*; Supplier: http://www.ti.com/lit/sg/scyt129e/scyt129e.pdf
part A pins: 1 (in), 2 GND (power) hidden, 5 VCC (power) hidden, 6 (out)
part B pins: 2 GND (power) hidden, 3 (in), 4 (out), 5 VCC (power) hidden

## 74LVC2G06
designator *  value 74LVC2G06
ki_keywords: Dual Gate NOT Open Drain LVC CMOS; ki_description: Dual NOT Gate w/ Open Drain, Low-Voltage CMOS; ki_fp_filters: SG-* SOT*; Supplier: http://www.ti.com/lit/sg/scyt129e/scyt129e.pdf
part A pins: 1 (in), 2 GND (power) hidden, 5 VCC (power) hidden, 6 (oc)
part B pins: 2 GND (power) hidden, 3 (in), 4 (oc), 5 VCC (power) hidden

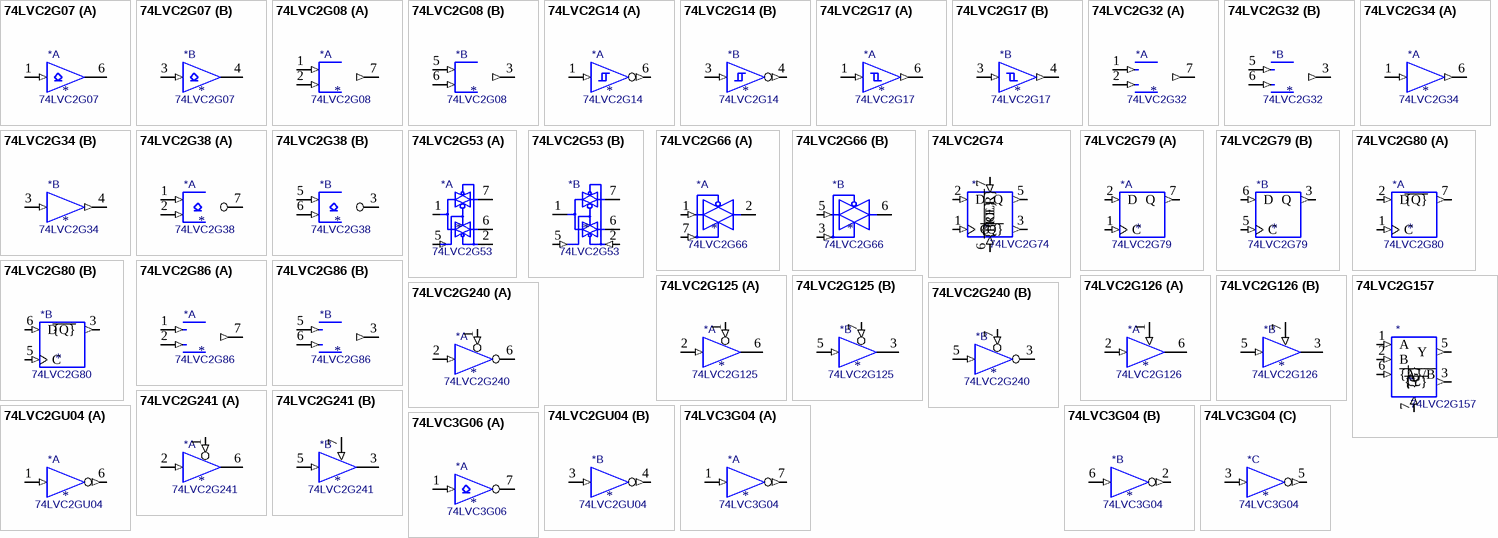
[diagram p4: symbols 74LVC2G07 to 74LVC3G06]

## 74LVC2G07
designator *  value 74LVC2G07
ki_keywords: Dual Gate Buffer Open Drain LVC CMOS; ki_description: Dual Buffer w/ Open Drain, Low-Voltage CMOS; ki_fp_filters: SG-* SOT*; Supplier: http://www.ti.com/lit/sg/scyt129e/scyt129e.pdf
part A pins: 1 (in), 2 GND (power) hidden, 5 VCC (power) hidden, 6 (oc)
part B pins: 2 GND (power) hidden, 3 (in), 4 (oc), 5 VCC (power) hidden

## 74LVC2G08
designator *  value 74LVC2G08
ki_keywords: Dual Gate AND LVC CMOS; ki_description: Dual AND Gate, Low-Voltage CMOS; ki_fp_filters: SSOP* VSSOP*; Supplier: http://www.ti.com/lit/sg/scyt129e/scyt129e.pdf
part A pins: 1 (in), 2 (in), 4 GND (power) hidden, 7 (out), 8 VCC (power) hidden
part B pins: 3 (out), 4 GND (power) hidden, 5 (in), 6 (in), 8 VCC (power) hidden

## 74LVC2G14
designator *  value 74LVC2G14
ki_keywords: Dual Gate NOT Schmitt LVC CMOS; ki_description: Dual NOT Gate Schmitt Triggered, Low-Voltage CMOS; ki_fp_filters: SG-* SOT*; Supplier: https://www.ti.com/lit/ds/symlink/sn74lvc2g14.pdf
part A pins: 1 (in), 2 GND (power) hidden, 5 VCC (power) hidden, 6 (out)
part B pins: 2 GND (power) hidden, 3 (in), 4 (out), 5 VCC (power) hidden

## 74LVC2G17
designator *  value 74LVC2G17
ki_keywords: Dual Buffer Schmitt LVC CMOS; ki_description: Dual Buffer Schmitt Triggered, Low-Voltage CMOS; ki_fp_filters: SG-* SOT*; Supplier: http://www.ti.com/lit/sg/scyt129e/scyt129e.pdf
part A pins: 1 (in), 2 GND (power) hidden, 5 VCC (power) hidden, 6 (out)
part B pins: 2 GND (power) hidden, 3 (in), 4 (out), 5 VCC (power) hidden

## 74LVC2G32
designator *  value 74LVC2G32
ki_keywords: Dual Gate OR LVC CMOS; ki_description: Dual OR Gate, Low-Voltage CMOS; ki_fp_filters: SSOP* VSSOP*; Supplier: http://www.ti.com/lit/sg/scyt129e/scyt129e.pdf
part A pins: 1 (in), 2 (in), 4 GND (power) hidden, 7 (out), 8 VCC (power) hidden
part B pins: 3 (out), 4 GND (power) hidden, 5 (in), 6 (in), 8 VCC (power) hidden

## 74LVC2G34
designator *  value 74LVC2G34
ki_keywords: Dual Buffer LVC CMOS; ki_description: Dual Buffer, Low-Voltage CMOS; ki_fp_filters: SG-* SOT*; Supplier: http://www.ti.com/lit/sg/scyt129e/scyt129e.pdf
part A pins: 1 (in), 2 GND (power) hidden, 5 VCC (power) hidden, 6 (out)
part B pins: 2 GND (power) hidden, 3 (in), 4 (out), 5 VCC (power) hidden

## 74LVC2G38
designator *  value 74LVC2G38
ki_keywords: Dual Gate NAND Open Drain LVC CMOS; ki_description: Dual NAND Gate w/ Open Drain, Low-Voltage CMOS; ki_fp_filters: SSOP* VSSOP*; Supplier: http://www.ti.com/lit/sg/scyt129e/scyt129e.pdf
part A pins: 1 (in), 2 (in), 4 GND (power) hidden, 7 (oc), 8 VCC (power) hidden
part B pins: 3 (oc), 4 GND (power) hidden, 5 (in), 6 (in), 8 VCC (power) hidden

## 74LVC2G53
designator *  value 74LVC2G53
ki_keywords: Analog Switch 1 to 2 CMOS; ki_description: 1 to 2 Analog Switch Mux/Demux, Low-Voltage CMOS; ki_fp_filters: SSOP* VSSOP*; Supplier: http://www.ti.com/lit/sg/scyt129e/scyt129e.pdf
part A pins: 1 (io), 2 (io), 3 GND (power) hidden, 4 GND (power) hidden, 5 (in), 6 (io), 7 (io), 8 VCC (power) hidden
part B pins: 1 (io), 2 (in), 4 GND (power) hidden, 5 (in), 6 (io), 7 (io), 8 VCC (power) hidden

## 74LVC2G66
designator *  value 74LVC2G66
ki_keywords: Dual Analog Switch; ki_fp_filters: SSOP* VSSOP*; Supplier: http://www.ti.com/lit/sg/scyt129e/scyt129e.pdf; ki_description: Dual Analog Switch
part A pins: 1 (in), 2 (hiz), 4 GND (power) hidden, 7 (in), 8 VCC (power) hidden
part B pins: 3 (in), 4 GND (power) hidden, 5 (in), 6 (hiz), 8 VCC (power) hidden

## 74LVC2G74
designator *  value 74LVC2G74
ki_keywords: Single D Flip-Flop D CMOS; ki_description: 74AUC1G74, Single D Flip-Flop, Low-Voltage CMOS; ki_fp_filters: SSOP* VSSOP*; Supplier: http://www.ti.com/lit/sg/scyt129e/scyt129e.pdf
pins: 1 C (in), 2 D (in), 3 ~{{Q}} (out), 4 GND (power) hidden, 5 Q (out), 6 ~{{CLR}} (in), 7 ~{{PRE}} (in), 8 VCC (power) hidden

## 74LVC2G79
designator *  value 74LVC2G79
ki_keywords: Dual D Flip-Flop D CMOS; ki_description: Dual D Flip-Flop, Low-Voltage CMOS; ki_fp_filters: SSOP* VSSOP*; Supplier: http://www.ti.com/lit/sg/scyt129e/scyt129e.pdf
part A pins: 1 C (in), 2 D (in), 4 GND (power) hidden, 7 Q (out), 8 VCC (power) hidden
part B pins: 3 Q (out), 4 GND (power) hidden, 5 C (in), 6 D (in), 8 VCC (power) hidden

## 74LVC2G80
designator *  value 74LVC2G80
ki_keywords: Dual D Flip-Flop Negative CMOS; ki_description: Dual D Flip-Flop w/ Negative Output, Low-Voltage CMOS; ki_fp_filters: SSOP* VSSOP*; Supplier: http://www.ti.com/lit/sg/scyt129e/scyt129e.pdf
part A pins: 1 C (in), 2 D (in), 4 GND (power) hidden, 7 ~{{Q}} (out), 8 VCC (power) hidden
part B pins: 3 ~{{Q}} (out), 4 GND (power) hidden, 5 C (in), 6 D (in), 8 VCC (power) hidden

## 74LVC2G86
designator *  value 74LVC2G86
ki_keywords: Dual Gate EX-OR LVC CMOS; ki_description: Dual EX-OR Gate, Low-Voltage CMOS; ki_fp_filters: SSOP* VSSOP*; Supplier: http://www.ti.com/lit/sg/scyt129e/scyt129e.pdf
part A pins: 1 (in), 2 (in), 4 GND (power) hidden, 7 (out), 8 VCC (power) hidden
part B pins: 3 (out), 4 GND (power) hidden, 5 (in), 6 (in), 8 VCC (power) hidden

## 74LVC2G125
designator *  value 74LVC2G125
ki_keywords: Dual Buff Tri-State LVC CMOS; ki_description: Dual Buffer Tri-State, Low-Voltage CMOS; ki_fp_filters: VSSOP*; Supplier: http://www.ti.com/lit/sg/scyt129e/scyt129e.pdf
part A pins: 1 (in), 2 (in), 4 GND (power) hidden, 6 (hiz), 8 VCC (power) hidden
part B pins: 3 (hiz), 4 GND (power) hidden, 5 (in), 7 (in), 8 VCC (power) hidden

## 74LVC2G126
designator *  value 74LVC2G126
ki_keywords: Dual Buff Tri-State LVC CMOS; ki_description: Dual Buffer Tri-State, Low-Voltage CMOS; ki_fp_filters: VSSOP*; Supplier: http://www.ti.com/lit/sg/scyt129e/scyt129e.pdf
part A pins: 1 (in), 2 (in), 4 GND (power) hidden, 6 (hiz), 8 VCC (power) hidden
part B pins: 3 (hiz), 4 GND (power) hidden, 5 (in), 7 (in), 8 VCC (power) hidden